# Altium schematic symbol library SCH - LOGIC - ONSEMI MC74VHC1G32DF.SchLib: 1 symbol
Pins are listed as number, name and electrical type; pins without a type are passive.

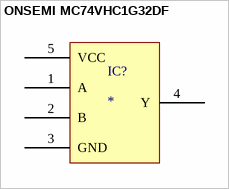
[diagram p0: symbol ONSEMI MC74VHC1G32DF]

## ONSEMI MC74VHC1G32DF
designator IC?
pins: 1 A, 2 B, 3 GND, 4 Y, 5 VCC